# Altium footprint library POWERSO-20_self.PcbLib: 1 footprints
Each footprint in its own frame and in the unit in brackets; x right, y up, seen from the top. Pads: shape width x height; smd on the part's side, far side on the other; paste and mask are expansions set on the pad; w line width, h text height; cw(c..) or ccw(c..) is an arc to the next point about the centre after c.
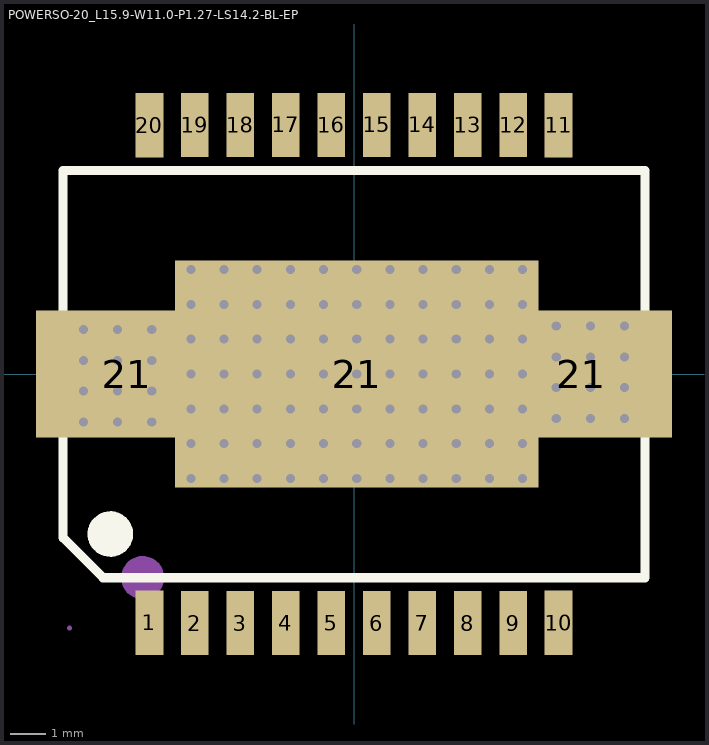
[diagram p0: the footprint, top view; thin cyan lines are the x and y axes]

## POWERSO-20_L15.9-W11.0-P1.27-LS14.2-BL-EP [mm]
pads (23):
  rect 0.772x1.8 smd paste+0 mask+0.051: 1(-5.715,-6.955) 2(-4.445,-6.958) 3(-3.175,-6.958) 4(-1.905,-6.958) 5(-0.635,-6.958) 6(0.635,-6.958) 7(1.905,-6.958) 8(3.175,-6.958) 9(4.445,-6.958) 10(5.715,-6.955) 11(5.715,6.955) 12(4.445,6.958) 13(3.175,6.958) 14(1.905,6.958) 15(0.635,6.958) 16(-0.635,6.958) 17(-1.905,6.958) 18(-3.175,6.958) 19(-4.445,6.958) 20(-5.715,6.955)
  rect 5.08x3.556 all layers, no hole: 21(-6.35,0) 21(6.35,0)
  rect 10.16x6.35 all layers, no hole: 21(0.076,0)
via -7.556,0.381 diameter 0.508 hole 0.254
via -6.604,0.381 diameter 0.508 hole 0.254
via -5.651,0.381 diameter 0.508 hole 0.254
via -7.556,-0.48 diameter 0.508 hole 0.254
via -6.604,-0.48 diameter 0.508 hole 0.254
via -5.651,-0.48 diameter 0.508 hole 0.254
via -5.651,1.242 diameter 0.508 hole 0.254
via -6.604,1.242 diameter 0.508 hole 0.254
via -7.556,1.242 diameter 0.508 hole 0.254
via -5.651,-1.341 diameter 0.508 hole 0.254
via -6.604,-1.341 diameter 0.508 hole 0.254
via -7.556,-1.341 diameter 0.508 hole 0.254
via 5.651,-1.242 diameter 0.508 hole 0.254
via 6.604,-1.242 diameter 0.508 hole 0.254
via 7.556,-1.242 diameter 0.508 hole 0.254
via 5.651,1.341 diameter 0.508 hole 0.254
via 6.604,1.341 diameter 0.508 hole 0.254
via 7.556,1.341 diameter 0.508 hole 0.254
via 7.556,-0.381 diameter 0.508 hole 0.254
via 6.604,-0.381 diameter 0.508 hole 0.254
via 5.651,-0.381 diameter 0.508 hole 0.254
via 7.556,0.48 diameter 0.508 hole 0.254
via 6.604,0.48 diameter 0.508 hole 0.254
via 5.651,0.48 diameter 0.508 hole 0.254
via -4.559,-2.921 diameter 0.508 hole 0.254
via -3.632,-2.921 diameter 0.508 hole 0.254
via -2.705,-2.921 diameter 0.508 hole 0.254
via 0.076,-2.921 diameter 0.508 hole 0.254
via -0.851,-2.921 diameter 0.508 hole 0.254
via -1.778,-2.921 diameter 0.508 hole 0.254
via 2.857,-2.921 diameter 0.508 hole 0.254
via 1.93,-2.921 diameter 0.508 hole 0.254
via 1.003,-2.921 diameter 0.508 hole 0.254
via 3.785,-2.921 diameter 0.508 hole 0.254
via 4.712,-2.921 diameter 0.508 hole 0.254
via -4.559,-1.947 diameter 0.508 hole 0.254
via -3.632,-1.947 diameter 0.508 hole 0.254
via -2.705,-1.947 diameter 0.508 hole 0.254
via 0.076,-1.947 diameter 0.508 hole 0.254
via -0.851,-1.947 diameter 0.508 hole 0.254
via -1.778,-1.947 diameter 0.508 hole 0.254
via 2.857,-1.947 diameter 0.508 hole 0.254
via 1.93,-1.947 diameter 0.508 hole 0.254
via 1.003,-1.947 diameter 0.508 hole 0.254
via 3.785,-1.947 diameter 0.508 hole 0.254
via 4.712,-1.947 diameter 0.508 hole 0.254
via -4.559,-0.974 diameter 0.508 hole 0.254
via -3.632,-0.974 diameter 0.508 hole 0.254
via -2.705,-0.974 diameter 0.508 hole 0.254
via 0.076,-0.974 diameter 0.508 hole 0.254
via -0.851,-0.974 diameter 0.508 hole 0.254
via -1.778,-0.974 diameter 0.508 hole 0.254
via 2.857,-0.974 diameter 0.508 hole 0.254
via 1.93,-0.974 diameter 0.508 hole 0.254
via 1.003,-0.974 diameter 0.508 hole 0.254
via 3.785,-0.974 diameter 0.508 hole 0.254
via 4.712,-0.974 diameter 0.508 hole 0.254
via -4.559,0 diameter 0.508 hole 0.254
via -3.632,0 diameter 0.508 hole 0.254
via -2.705,0 diameter 0.508 hole 0.254
via 0.076,0 diameter 0.508 hole 0.254
via -0.851,0 diameter 0.508 hole 0.254
via -1.778,0 diameter 0.508 hole 0.254
via 2.857,0 diameter 0.508 hole 0.254
via 1.93,0 diameter 0.508 hole 0.254
via 1.003,0 diameter 0.508 hole 0.254
via 3.785,0 diameter 0.508 hole 0.254
via 4.712,0 diameter 0.508 hole 0.254
via -4.559,0.974 diameter 0.508 hole 0.254
via -3.632,0.974 diameter 0.508 hole 0.254
via -2.705,0.974 diameter 0.508 hole 0.254
via 0.076,0.974 diameter 0.508 hole 0.254
via -0.851,0.974 diameter 0.508 hole 0.254
via -1.778,0.974 diameter 0.508 hole 0.254
via 2.857,0.974 diameter 0.508 hole 0.254
via 1.93,0.974 diameter 0.508 hole 0.254
via 1.003,0.974 diameter 0.508 hole 0.254
via 3.785,0.974 diameter 0.508 hole 0.254
via 4.712,0.974 diameter 0.508 hole 0.254
via -4.559,1.947 diameter 0.508 hole 0.254
via -3.632,1.947 diameter 0.508 hole 0.254
via -2.705,1.947 diameter 0.508 hole 0.254
via 0.076,1.947 diameter 0.508 hole 0.254
via -0.851,1.947 diameter 0.508 hole 0.254
via -1.778,1.947 diameter 0.508 hole 0.254
via 2.857,1.947 diameter 0.508 hole 0.254
via 1.93,1.947 diameter 0.508 hole 0.254
via 1.003,1.947 diameter 0.508 hole 0.254
via 3.785,1.947 diameter 0.508 hole 0.254
via 4.712,1.947 diameter 0.508 hole 0.254
via 4.712,2.921 diameter 0.508 hole 0.254
via 3.785,2.921 diameter 0.508 hole 0.254
via 1.003,2.921 diameter 0.508 hole 0.254
via 1.93,2.921 diameter 0.508 hole 0.254
via 2.857,2.921 diameter 0.508 hole 0.254
via -1.778,2.921 diameter 0.508 hole 0.254
via -0.851,2.921 diameter 0.508 hole 0.254
via 0.076,2.921 diameter 0.508 hole 0.254
via -2.705,2.921 diameter 0.508 hole 0.254
via -3.632,2.921 diameter 0.508 hole 0.254
via -4.559,2.921 diameter 0.508 hole 0.254
Top Overlay:
  circle w0.258: c-6.807,-4.471 r0.508
  circle w0.258: c-6.807,-4.471 r0.305
  circle w0.258: c-6.807,-4.471 r0.102
  lines w0.258: -8.128,-4.573 -7.01,-5.69 8.128,-5.69 8.128,5.689 -8.128,5.689 -8.128,-4.573
Mechanical 6:
  circle w0.6: c-5.904,-5.689 r0.3
Mechanical 15:
  region: -7.89,-7.101 -7.89,-7.076 -7.925,-7.041 -7.975,-7.041 -8.01,-7.076 -8.01,-7.101 -8.01,-7.125 -7.975,-7.161 -7.925,-7.161 -7.89,-7.125 -7.89,-7.101
3D body "3D_PCB3_2023-04-30.stp": height 4.95, standoff 1.35, extent -7.96,-7.101 7.96,7.099
3D body "3D_PCB3_2023-04-30.stp": height 5.2, standoff 1.6, extent -8.138,-8.371 7.782,5.829
3D body "3D_PCB3_2023-04-30.stp": height 5.2, standoff 1.6, extent -8.341,-8.244 7.579,5.956
3D body "3D_PCB3_2023-04-30.stp": height 5.2, standoff 1.6, extent -10.919,-8.371 5.001,5.829
3D body "3D_PCB3_2023-04-30.stp": height 5.2, standoff 1.6, extent -8.595,-9.768 7.325,4.432
3D body "3D_PCB3_2023-04-30.stp": height 5.2, standoff 1.6, extent 0.676,-13.197 16.596,1.003